# Altium footprint library SuperLib.PcbLib: 31 footprints (part 1 of 2)
Each footprint in its own frame and in the unit in brackets; x right, y up, seen from the top. Pads: shape width x height; smd on the part's side, far side on the other; paste and mask are expansions set on the pad; w line width, h text height; cw(c..) or ccw(c..) is an arc to the next point about the centre after c.
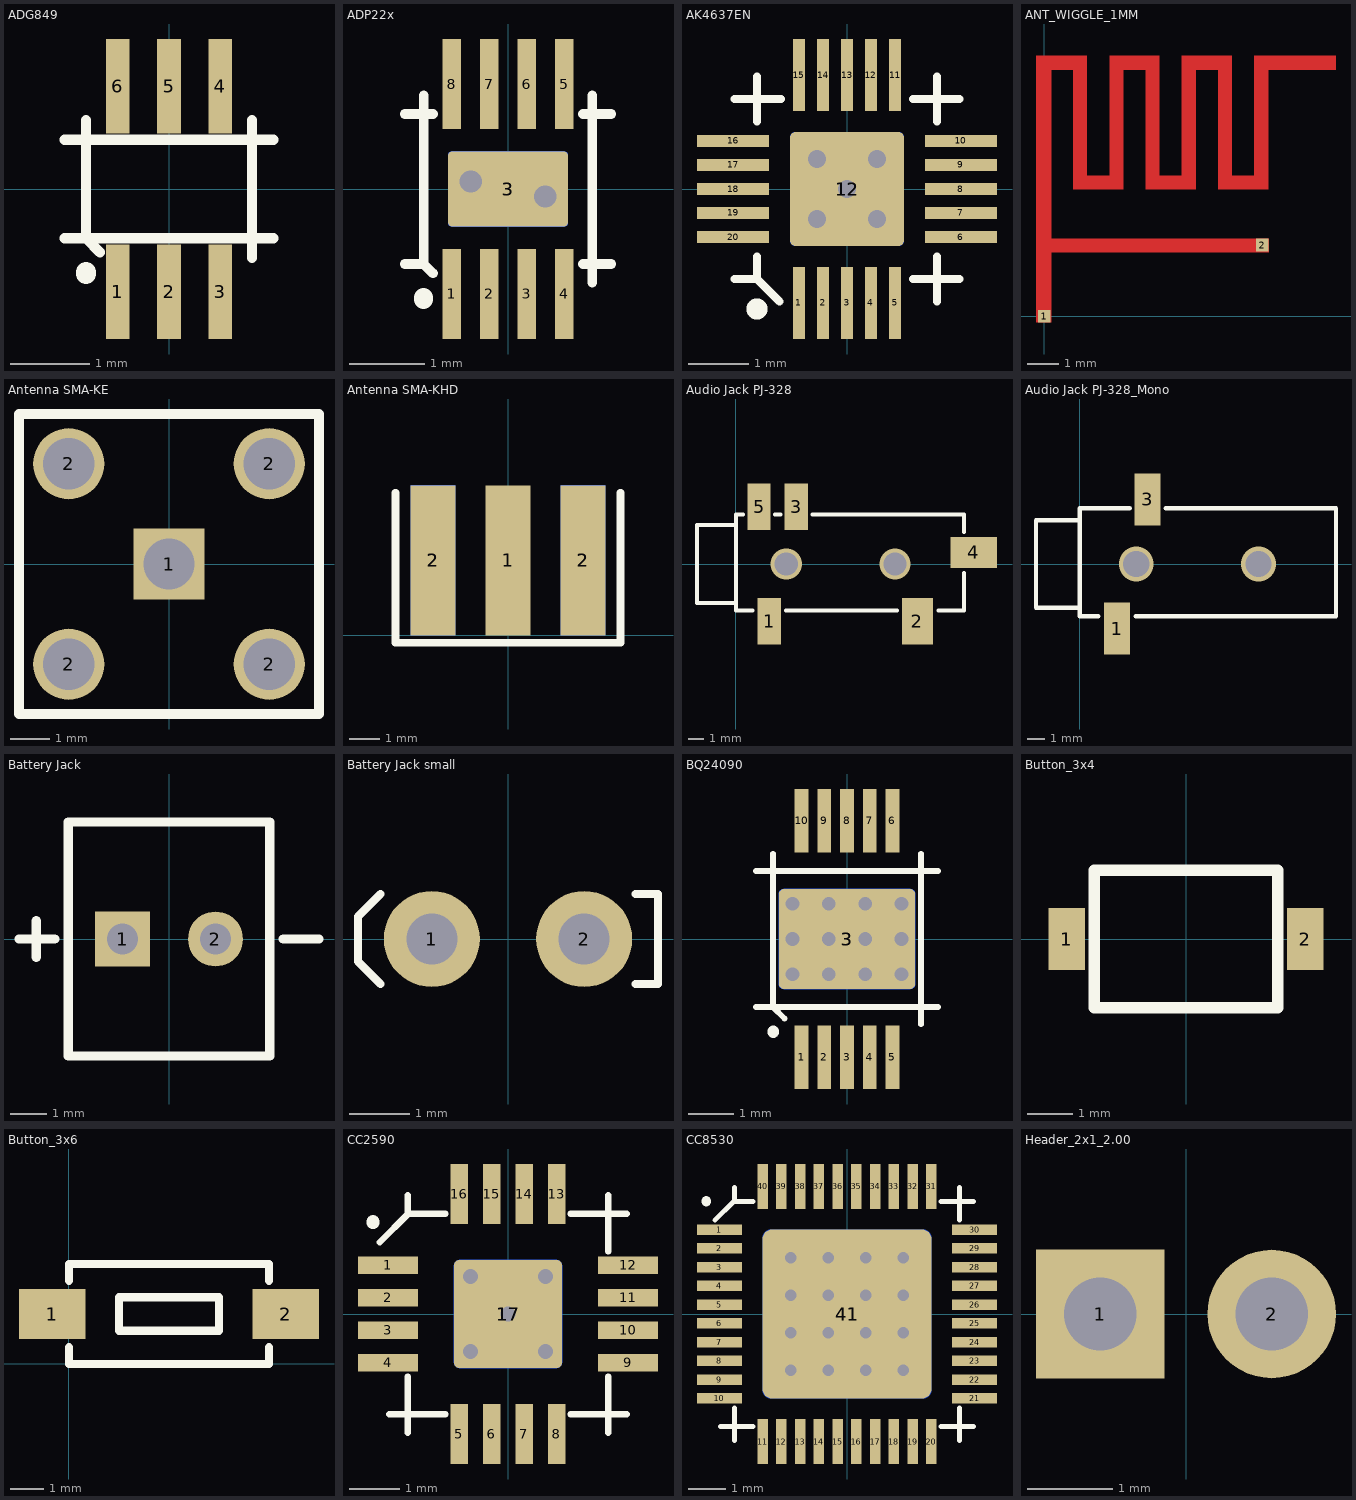
[diagram p0: the footprints below, top view; thin cyan lines are the x and y axes]

## ADG849 [mm]
pads (6):
  rect 0.3x1.2 smd paste+0 mask+0: 1(-0.65,-1.3) 2(0,-1.3) 3(0.65,-1.3) 4(0.65,1.3) 5(0,1.3) 6(-0.65,1.3)
Top Overlay:
  lines w0.13: -1.325,-0.625 1.325,-0.625 ; -1.325,0.625 1.325,0.625 ; -1.05,0.875 -1.05,-0.625 -0.875,-0.8 ; 1.05,-0.875 1.05,0.875
  lines w0.254: -1.05,-1.075 -1.05,-1.05

## ADP22x [mm]
pads (10):
  rect 0.25x1.2 smd mask+0: 1(-0.75,-1.4) 2(-0.25,-1.4) 3(0.25,-1.4) 4(0.75,-1.4) 5(0.75,1.4) 6(0.25,1.4) 7(-0.25,1.4) 8(-0.75,1.4)
  rrect10% 1.6x1 smd mask+0: 3(0,0)
  rrect10% 1.6x1 smd far side mask+0: 3(0,0)
via 0.5,-0.1 diameter 0.4 hole 0.3
via -0.5,0.1 diameter 0.4 hole 0.3
Top Overlay:
  lines w0.13: -1.375,-1 -1.125,-1 ; -1.375,1 -1.125,1 -1,1 ; -1.125,1.25 -1.125,-1 ; -1,-1.125 -1.125,-1 ; 1,-1 1.125,-1 1.375,-1 ; 1,1 1.125,1 1.375,1 ; 1.125,-1.25 1.125,1.25
  lines w0.254: -1.125,-1.475 -1.125,-1.45

## AK4637EN [mm]
pads (22):
  rect 0.2x1.2 smd mask+0: 1(-0.8,-1.9) 2(-0.4,-1.9) 3(0,-1.9) 4(0.4,-1.9) 5(0.8,-1.9) 11(0.8,1.9) 12(0.4,1.9) 13(0,1.9) 14(-0.4,1.9) 15(-0.8,1.9)
  rect 1.2x0.2 smd mask+0: 6(1.9,-0.8) 7(1.9,-0.4) 8(1.9,0) 9(1.9,0.4) 10(1.9,0.8) 16(-1.9,0.8) 17(-1.9,0.4) 18(-1.9,0) 19(-1.9,-0.4) 20(-1.9,-0.8)
  rrect10% 1.9x1.9 smd mask+0: 12(0,0)
  rrect10% 1.9x1.9 smd far side mask+0: 12(0,0)
via -0.5,0.5 diameter 0.4 hole 0.3
via -0.5,-0.5 diameter 0.4 hole 0.3
via 0.5,-0.5 diameter 0.4 hole 0.3
via 0.5,0.5 diameter 0.4 hole 0.3
via 0,0 diameter 0.4 hole 0.3
Top Overlay:
  circle w0.254: c-1.5,-2 r0.05
  lines w0.13: -1.875,-1.5 -1.5,-1.5 ; -1.875,1.5 -1.5,1.5 ; -1.5,-1.125 -1.5,-1.5 ; -1.5,1.125 -1.5,1.5 ; -1.5,1.875 -1.5,1.5 ; -1.125,-1.875 -1.5,-1.5 ; -1.1,1.5 -1.5,1.5 ; 1.1,-1.5 1.5,-1.5 ; 1.1,1.5 1.5,1.5 ; 1.5,-1.875 1.5,-1.5 ; 1.5,-1.125 1.5,-1.5 ; 1.5,1.125 1.5,1.5 ; 1.5,1.875 1.5,1.5 ; 1.875,-1.5 1.5,-1.5 ; 1.875,1.5 1.5,1.5

## ANT_WIGGLE_1MM [mm]
pads (2):
  rect 0.4x0.4 smd: 1(0,0) 2(6.93,2.26)
Top Layer:
  rectangle: 6.667,7.826 9.267,8.275
  rectangle: 6.667,4.024 7.117,8.275
  rectangle: 5.519,4.024 7.117,4.475
  rectangle: 5.519,4.024 5.969,8.277
  rectangle: 4.367,7.824 5.969,8.277
  rectangle: 4.367,4.024 4.818,8.274
  rectangle: 3.217,4.024 4.818,4.475
  rectangle: 3.217,4.024 3.668,8.274
  rectangle: 2.067,7.824 3.668,8.274
  rectangle: 2.067,4.026 2.517,8.274
  rectangle: 0.917,4.026 2.517,4.476
  rectangle: 0.917,4.026 1.363,8.279
  rectangle: -0.262,7.825 1.363,8.274
  rectangle: 0.017,2.026 7.147,2.475
  rectangle: -0.262,-0.199 0.238,8.274

## Antenna SMA-KE [mm]
pads (5):
  rect 1.8x1.8 hole 1.3 paste+0 mask+0: 1(0,0)
  round 1.8 hole 1.3 paste+0 mask+0: 2(-2.54,-2.54) 2(-2.54,2.54) 2(2.54,-2.54) 2(2.54,2.54)
Top Overlay:
  lines w0.254: -3.8,-3.8 -3.8,3.8 3.8,3.8 3.8,-3.8 -3.8,-3.8

## Antenna SMA-KHD [mm]
pads (5):
  rect 1.5x5 smd mask+0: 1(0,2.5) 2(-2.5,2.5) 2(2.5,2.5)
  rect 1.5x5 smd far side mask+0: 2(-2.5,2.5) 2(2.5,2.5)
Top Overlay:
  lines w0.254: -3.75,4.75 -3.75,-0.25 3.75,-0.25 3.75,4.75
Bottom Overlay:
  lines w0.254: -3.75,4.75 -3.75,-0.25 3.75,-0.25 3.75,4.75

## Audio Jack PJ-328 [mm]
pads (5):
  rect 1.5x3 smd mask+0.1: 1(2.15,-3.7) 3(3.9,3.7) 5(1.5,3.7)
  rect 2x3 smd mask+0.1: 2(11.7,-3.7)
  rect 3x2 smd mask+0.1: 4(15.325,0.75)
via 10.25,0 diameter 2 hole 1.5
via 3.25,0 diameter 2 hole 1.5
Top Overlay:
  lines w0.254: 0.45,3.2 0,3.2 0,2.5 ; 1.075,-3 0,-3 0,-2.5 ; 2.525,3.2 2.875,3.2 ; 3.225,-3 10.375,-3 ; 4.95,3.2 14.7,3.2 14.7,2.075 ; 13.05,-3 14.7,-3 14.7,-0.575 ; 0,-2.5 0,2.5 ; 0,-2.5 -2.5,-2.5 -2.5,2.5 0,2.5

## Audio Jack PJ-328_Mono [mm]
pads (2):
  rect 1.5x3 smd mask+0.1: 1(2.15,-3.7) 3(3.9,3.7)
via 10.25,0 diameter 2 hole 1.5
via 3.25,0 diameter 2 hole 1.5
Top Overlay:
  lines w0.254: 0.1,3.2 2.875,3.2 ; 0.45,3.2 0,3.2 0,2.5 ; 1.075,-3 0,-3 0,-2.5 ; 3.225,-3 10.375,-3 ; 4.95,3.2 14.7,3.2 14.7,2.075 ; 10.3,-3 14.7,-3 14.7,2.575 ; 0,-2.5 0,2.5 ; 0,-2.5 -2.5,-2.5 -2.5,2.5 0,2.5

## Battery Jack [mm]
pads (2):
  rect 1.5x1.5 hole 0.85 paste+0 mask+0: 1(-1.27,0)
  round 1.5 hole 0.85 paste+0 mask+0: 2(1.27,0)
Top Overlay:
  lines w0.254: -4.1,0 -3.125,0 ; -3.625,-0.5 -3.625,0.5 ; 3.125,0 4.1,0 ; -2.75,-3.2 2.75,-3.2 2.75,3.2 -2.75,3.2 -2.75,-3.2

## Battery Jack small [mm]
pads (2):
  round 1.6 hole 0.85 paste+0 mask+0: 1(-1.27,0) 2(1.27,0)
Top Overlay:
  lines w0.13: -2.125,-0.75 -2.5,-0.375 -2.5,0.375 -2.125,0.75 ; 2.125,-0.75 2.5,-0.75 2.5,0.75 2.125,0.75

## BQ24090 [mm]
pads (12):
  rect 0.3x1.4 smd paste+0 mask+0: 1(-1,-2.6) 2(-0.5,-2.6) 3(0,-2.6) 4(0.5,-2.6) 5(1,-2.6) 6(1,2.6) 7(0.5,2.6) 8(0,2.6) 9(-0.5,2.6) 10(-1,2.6)
  rrect10% 3x2.2 smd paste+0 mask+0: 3(0,0)
  rrect10% 3x2.2 smd far side paste+0 mask+0: 3(0,0)
via 0.4,0.775 diameter 0.4 hole 0.3
via 1.2,0.775 diameter 0.4 hole 0.3
via -1.2,0.775 diameter 0.4 hole 0.3
via -0.4,0.775 diameter 0.4 hole 0.3
via -1.2,0 diameter 0.4 hole 0.3
via -1.2,-0.775 diameter 0.4 hole 0.3
via -0.4,0 diameter 0.4 hole 0.3
via 0.4,0 diameter 0.4 hole 0.3
via 1.2,0 diameter 0.4 hole 0.3
via -0.4,-0.775 diameter 0.4 hole 0.3
via 0.4,-0.775 diameter 0.4 hole 0.3
via 1.2,-0.775 diameter 0.4 hole 0.3
Top Overlay:
  lines w0.13: -2,-1.5 2,-1.5 ; -2,1.5 2,1.5 ; -1.625,1.875 -1.625,-1.5 -1.375,-1.75 ; 1.625,-1.875 1.625,1.875
  lines w0.254: -1.625,-2.05 -1.625,-2.025

## Button_3x4 [mm]
pads (2):
  rect 0.8x1.35 smd paste+0 mask+0: 1(-2.6,0) 2(2.6,0)
Top Overlay:
  lines w0.254: -2,-1.5 -2,1.5 2,1.5 2,-1.5 -2,-1.5

## Button_3x6 [mm]
pads (2):
  rect 2x1.5 smd: 1(-0.5,1.5) 2(6.5,1.5)
Top Overlay:
  lines w0.254: 0,0.5 0,0 6,0 6,0.5 ; 0,2.5 0,3 6,3 6,2.5 ; 1.5,1 1.5,2 4.5,2 4.5,1 1.5,1

## CC2590 [mm]
pads (18):
  rect 1.2x0.35 smd paste+0 mask+0: 1(-2.4,0.975) 2(-2.4,0.325) 3(-2.4,-0.325) 4(-2.4,-0.975) 9(2.4,-0.975) 10(2.4,-0.325) 11(2.4,0.325) 12(2.4,0.975)
  rect 0.35x1.2 smd paste+0 mask+0: 5(-0.975,-2.4) 6(-0.325,-2.4) 7(0.325,-2.4) 8(0.975,-2.4) 13(0.975,2.4) 14(0.325,2.4) 15(-0.325,2.4) 16(-0.975,2.4)
  rrect10% 2.16x2.16 smd paste+0 mask+0: 17(0,0)
  rrect10% 2.16x2.16 smd far side paste+0 mask+0: 17(0,0)
via 0.75,-0.75 diameter 0.4 hole 0.3
via -0.75,-0.75 diameter 0.4 hole 0.3
via -0.75,0.75 diameter 0.4 hole 0.3
via 0.75,0.75 diameter 0.4 hole 0.3
via 0,0 diameter 0.4 hole 0.3
Top Overlay:
  lines w0.13: -2.562,1.437 -2,2 ; -2.375,-2 -1.25,-2 ; -2,-2.375 -2,-1.25 ; -2,2.375 -2,2 ; -1.25,2 -2,2 ; 1.25,-2 2.375,-2 ; 1.25,2 2.375,2 ; 2,-2.375 2,-1.25 ; 2,1.25 2,2.375
  lines w0.254: -2.7,1.825 -2.7,1.85

## CC8530 [mm]
pads (42):
  rect 1.2x0.28 smd paste+0 mask+0: 1(-3.4,2.25) 2(-3.4,1.75) 3(-3.4,1.25) 4(-3.4,0.75) 5(-3.4,0.25) 6(-3.4,-0.25) 7(-3.4,-0.75) 8(-3.4,-1.25) 9(-3.4,-1.75) 10(-3.4,-2.25) 21(3.4,-2.25) 22(3.4,-1.75) 23(3.4,-1.25) 24(3.4,-0.75) 25(3.4,-0.25) 26(3.4,0.25) 27(3.4,0.75) 28(3.4,1.25) 29(3.4,1.75) 30(3.4,2.25)
  rect 0.28x1.2 smd paste+0 mask+0: 11(-2.25,-3.4) 12(-1.75,-3.4) 13(-1.25,-3.4) 14(-0.75,-3.4) 15(-0.25,-3.4) 16(0.25,-3.4) 17(0.75,-3.4) 18(1.25,-3.4) 19(1.75,-3.4) 20(2.25,-3.4) 31(2.25,3.4) 32(1.75,3.4) 33(1.25,3.4) 34(0.75,3.4) 35(0.25,3.4) 36(-0.25,3.4) 37(-0.75,3.4) 38(-1.25,3.4) 39(-1.75,3.4) 40(-2.25,3.4)
  rrect10% 4.5x4.5 smd paste+0 mask+0: 41(0,0)
  rrect10% 4.5x4.5 smd far side paste+0 mask+0: 41(0,0)
via 0.5,0.5 diameter 0.4 hole 0.3
via 0.5,1.5 diameter 0.4 hole 0.3
via 1.5,1.5 diameter 0.4 hole 0.3
via 1.5,0.5 diameter 0.4 hole 0.3
via 1.5,-0.5 diameter 0.4 hole 0.3
via 1.5,-1.5 diameter 0.4 hole 0.3
via 0.5,-1.5 diameter 0.4 hole 0.3
via 0.5,-0.5 diameter 0.4 hole 0.3
via -0.5,-0.5 diameter 0.4 hole 0.3
via -0.5,0.5 diameter 0.4 hole 0.3
via -0.5,1.5 diameter 0.4 hole 0.3
via -1.5,1.5 diameter 0.4 hole 0.3
via -1.5,0.5 diameter 0.4 hole 0.3
via -1.5,-0.5 diameter 0.4 hole 0.3
via -1.5,-1.5 diameter 0.4 hole 0.3
via -0.5,-1.5 diameter 0.4 hole 0.3
Top Overlay:
  lines w0.13: -3.525,2.5 -3.025,3 -3,3 ; -3.375,-3 -3,-3 ; -3,-3.375 -3,-3 ; -3,-2.5 -3,-3 ; -3,3.375 -3,3 ; -2.5,-3 -3,-3 ; -2.5,3 -3,3 ; 2.5,-3 3,-3 ; 2.5,3 3,3 ; 3,-3.375 3,-3 ; 3,-2.5 3,-3 ; 3,2.5 3,3 ; 3,3.375 3,3 ; 3.375,-3 3,-3 ; 3.375,3 3,3 ; -2.75,3 -2.75,3
  lines w0.254: -3.75,3 -3.75,3.025

## Header_2x1_2.00 [mm]
pads (2):
  rect 1.5x1.5 hole 0.85 paste+0 mask+0: 1(-1,0)
  round 1.5 hole 0.85 paste+0 mask+0: 2(1,0)